# EAGLE library part DEC4011 (library dec-con)
NPN Quad Transistor Array
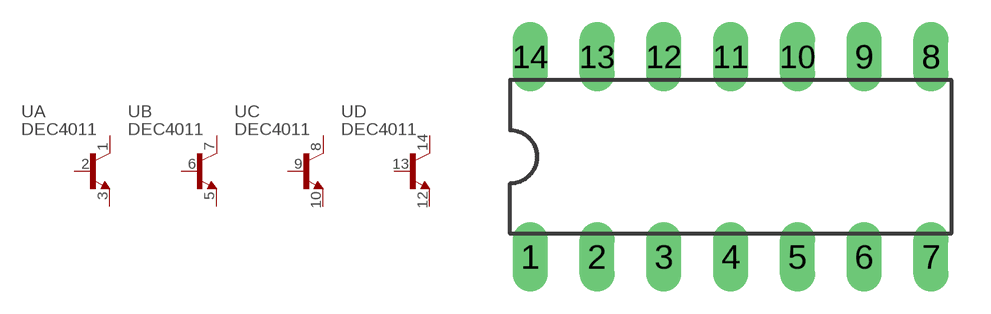
[diagram p114: symbol with the pads of DIL14; footprint DIL14]

Designator prefix -; gates A=NPN B=NPN C=NPN D=NPN

## DEC4011  [DIL14]
1  A:C  pas
2  A:B  pas
3  A:E  pas
5  B:E  pas
6  B:B  pas
7  B:C  pas
8  C:C  pas
9  C:B  pas
10  C:E  pas
12  D:E  pas
13  D:B  pas
14  D:C  pas

## Footprint DIL14 (pad centres in mm)
Dual In Line Package
drill 0.813 long: 1 -7.62,-3.81; 2 -5.08,-3.81; 3 -2.54,-3.81; 4 0,-3.81; 5 2.54,-3.81; 6 5.08,-3.81; 7 7.62,-3.81; 8 7.62,3.81; 9 5.08,3.81; 10 2.54,3.81; 11 0,3.81; 12 -2.54,3.81; 13 -5.08,3.81; 14 -7.62,3.81